# Altium integrated library PCB_Project.IntLib: 24 symbols
Pins are listed as number, name and electrical type; pins without a type are passive.

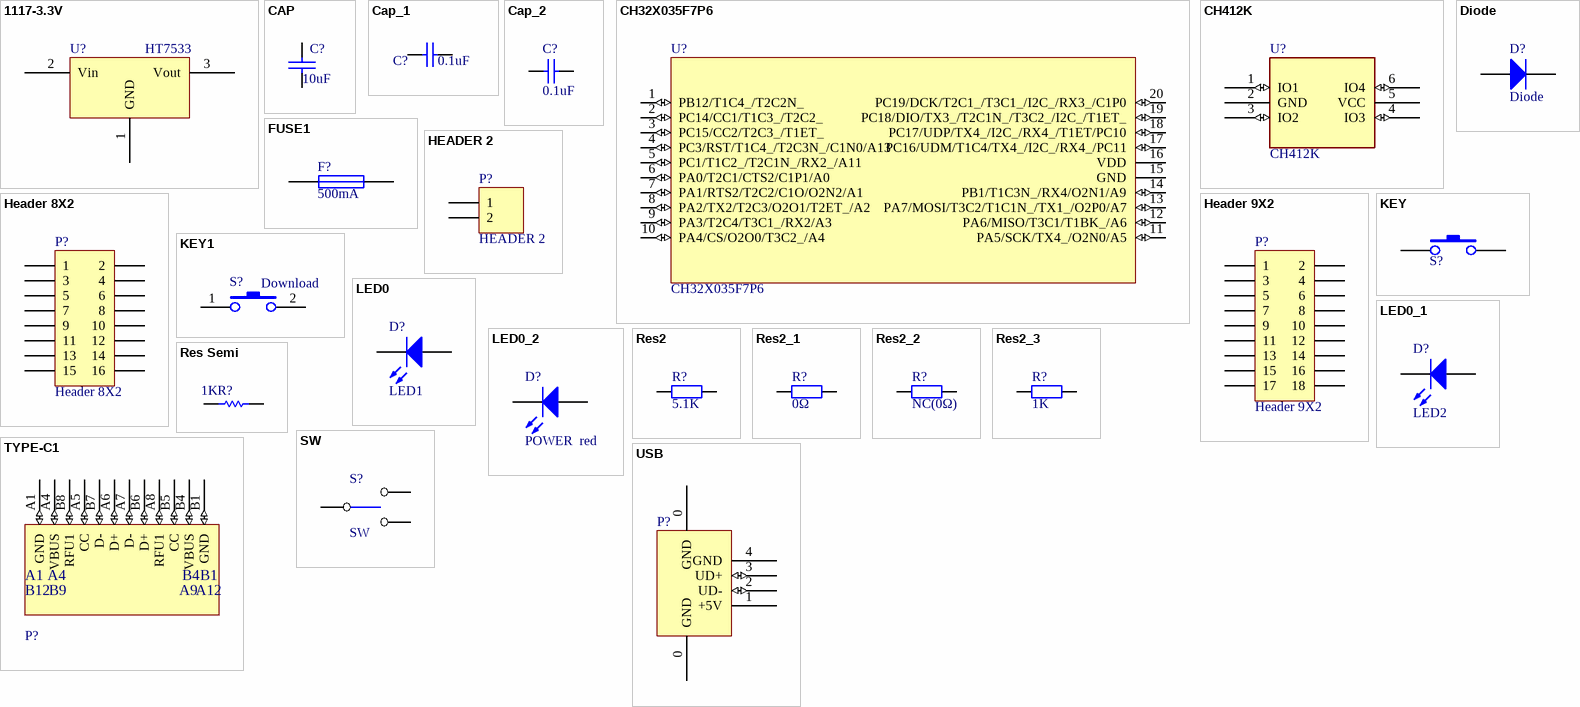
[diagram p0: symbols 1117-3.3V to USB]

## 1117-3.3V
designator U?, comment HT7533
footprint SOT-89
pins: 1 GND, 2 Vin, 3 Vout
2 alternate drawings of the same symbol

## CAP
designator C?, comment 10uF
Capacitor
footprint 0603_C
pins: 1, 2
2 alternate drawings of the same symbol

## Cap_1
designator C?, comment 0.1uF
Capacitor
simulation model CAP (Capacitor)
signal-integrity model Cap
footprint 0603_C
pins: 1, 2

## Cap_2
designator C?, comment 0.1uF
Capacitor; Published: 8-Jun-2000; LatestRevisionDate: 17-Jul-2002; LatestRevisionNote: Re-released for DXP Platform.; PackageReference: RAD-0.3; Publisher: Altium Limited; Value: 0.1uF
footprint 0603_C
pins: 1, 2
2 alternate drawings of the same symbol

## CH32X035F7P6
designator U?
RISC-V MCU with USB/PD/ADC/SPI/I2C/UART/OA/CMP
footprint TSSOP20 (Footprint not found)
pins: 1 PB12/T1C4_/T2C2N_ (io), 2 PC14/CC1/T1C3_/T2C2_ (io), 3 PC15/CC2/T2C3_/T1ET_ (io), 4 PC3/RST/T1C4_/T2C3N_/C1N0/A13 (io), 5 PC1/T1C2_/T2C1N_/RX2_/A11 (io), 6 PA0/T2C1/CTS2/C1P1/A0 (io), 7 PA1/RTS2/T2C2/C1O/O2N2/A1 (io), 8 PA2/TX2/T2C3/O2O1/T2ET_/A2 (io), 9 PA3/T2C4/T3C1_/RX2/A3 (io), 10 PA4/CS/O2O0/T3C2_/A4 (io), 11 PA5/SCK/TX4_/O2N0/A5 (io), 12 PA6/MISO/T3C1/T1BK_/A6 (io), 13 PA7/MOSI/T3C2/T1C1N_/TX1_/O2P0/A7 (io), 14 PB1/T1C3N_/RX4/O2N1/A9 (io), 15 GND (power), 16 VDD (power), 17 PC16/UDM/T1C4/TX4_/I2C_/RX4_/PC11 (io), 18 PC17/UDP/TX4_/I2C_/RX4_/T1ET/PC10 (io), 19 PC18/DIO/TX3_/T2C1N_/T3C2_/I2C_/T1ET_ (io), 20 PC19/DCK/T2C1_/T3C1_/I2C_/RX3_/C1P0 (io)

## CH412K
designator U?
Qaud ESD protect, high speed
footprint SOT-363
pins: 1 IO1 (io), 2 GND (power), 3 IO2 (io), 4 IO3 (io), 5 VCC (power), 6 IO4 (io)

## Diode
designator D?
Default Diode; Published: 8-Jun-2000; LatestRevisionDate: 17-Jul-2002; LatestRevisionNote: Re-released for DXP Platform.; PackageVersion: Sep-1996; PackageReference: SMC; Publisher: Altium Limited; Code_JEDEC: DO-214-AB
footprint DSO-C2/X3.3 (DO-214-AB/SMC; 2 C-Bend Leads; Body 7.9 x 5.9 mm, inc. leads (LxW))
simulation model DIODE (Diode)
signal-integrity model Diode
footprint 3216+
footprint SOD-123
pins: 1 A, 2 K

## FUSE1
designator F?, comment 500mA
Fuse
footprint 0603
pins: 1, 2
2 alternate drawings of the same symbol

## HEADER 2
designator P?
Header, 2-Pin
footprint SIP2-2.54mm
footprint SIP2-2.54mm
pins: 1, 2

## Header 8X2
designator P?
Header, 8-Pin, Dual row; LatestRevisionDate: 17-Jul-2002; LatestRevisionNote: Re-released for DXP Platform.; Publisher: Altium Limited
footprint HDR2X8 (Connector; Header; 8x2 Position)
signal-integrity model Connector
footprint IDC16-2.54mm
pins: 1, 2, 3, 4, 5, 6, 7, 8, 9, 10, 11, 12, 13, 14, 15, 16

## Header 9X2
designator P?
Header, 9-Pin, Dual row; LatestRevisionDate: 17-Jul-2002; LatestRevisionNote: Re-released for DXP Platform.; Publisher: Altium Limited
footprint HDR2X9 (Connector; Header; 9x2 Position)
signal-integrity model Connector
footprint IDC18-2.54mm
pins: 1, 2, 3, 4, 5, 6, 7, 8, 9, 10, 11, 12, 13, 14, 15, 16, 17, 18

## KEY
designator S?  (value not drawn)
footprint 贴片按键
pins: 1, 2
2 alternate drawings of the same symbol

## KEY1
designator S?, comment Download
footprint SMD_6.1x3.65x2.5mm-KEY
footprint KEYS
pins: 1, 2

## LED0
designator D?, comment LED1
Typical INFRARED GaAs LED; Published: 8-Jun-2000; LatestRevisionDate: 08-Jul-2005; LatestRevisionNote: Mech Layer 1 removed.; PackageReference: LED-0; Publisher: Altium Limited
footprint 0603+
pins: 1 A, 2 K
2 alternate drawings of the same symbol

## LED0_1
designator D?, comment LED2
Typical INFRARED GaAs LED; Published: 8-Jun-2000; LatestRevisionDate: 08-Jul-2005; LatestRevisionNote: Mech Layer 1 removed.; PackageReference: LED-0; Publisher: Altium Limited
footprint 0603+
pins: 1 A, 2 K
2 alternate drawings of the same symbol

## LED0_2
designator D?, comment POWER  red
Typical INFRARED GaAs LED; Published: 8-Jun-2000; LatestRevisionDate: 08-Jul-2005; LatestRevisionNote: Mech Layer 1 removed.; PackageReference: LED-0; Publisher: Altium Limited
footprint 0603L
footprint 0603+
pins: 1 A, 2 K
2 alternate drawings of the same symbol

## Res2
designator R?, comment 5.1K
Resistor
footprint AXIAL-0.4 (Axial Device, Thru-Hole; 2 Leads; 0.4 in Pin Spacing)
simulation model RESISTOR (Resistor)
signal-integrity model Res
footprint 0805R
footprint 0603
pins: 1, 2

## Res2_1
designator R?, comment 0Ω
Resistor
footprint AXIAL-0.4 (Axial Device, Thru-Hole; 2 Leads; 0.4 in Pin Spacing)
simulation model RESISTOR (Resistor)
signal-integrity model Res
footprint 0805R
footprint 0603
pins: 1, 2

## Res2_2
designator R?, comment NC(0Ω)
Resistor
footprint AXIAL-0.4
footprint 0805R
footprint 0603
pins: 1, 2
2 alternate drawings of the same symbol

## Res2_3
designator R?, comment 1K
Resistor
footprint AXIAL-0.4 (Axial Device, Thru-Hole; 2 Leads; 0.4 in Pin Spacing)
simulation model RESISTOR (Resistor)
signal-integrity model Res
footprint 0805R
footprint 0603
pins: 1, 2

## Res Semi
designator R?, comment 1K
Semiconductor Resistor
footprint 0603
footprint 1005[0402]
footprint 1608[0603]
footprint 2012[0805]
pins: 1, 2
2 alternate drawings of the same symbol

## SW
designator S?
footprint KEY-W6.6D1.8H1.4
footprint KEY2
footprint SW1
pins: 1, 2, 3
2 alternate drawings of the same symbol

## TYPE-C1
designator P?, comment TYPE-C  (value not drawn)
footprint TYPE-C-Receptacle-2.0
pins: A1 GND (io), A4 VBUS (io), A5 CC (io), A6 D+ (io), A7 D- (io), A8 RFU1 (io), B1 GND (io), B4 VBUS (io), B5 CC (io), B6 D+ (io), B7 D- (io), B8 RFU1 (io)
2 alternate drawings of the same symbol
text: B12; B9; A9; A12

## USB
designator P?, comment USB_A  (value not drawn)
USB Port
footprint USBAF
pins: 0 GND (power), 0 GND (power), 1 +5V (power), 2 UD- (io), 3 UD+ (io), 4 GND (power)
2 alternate drawings of the same symbol